# EAGLE library part POLOLU_3.3V (library powerboard)
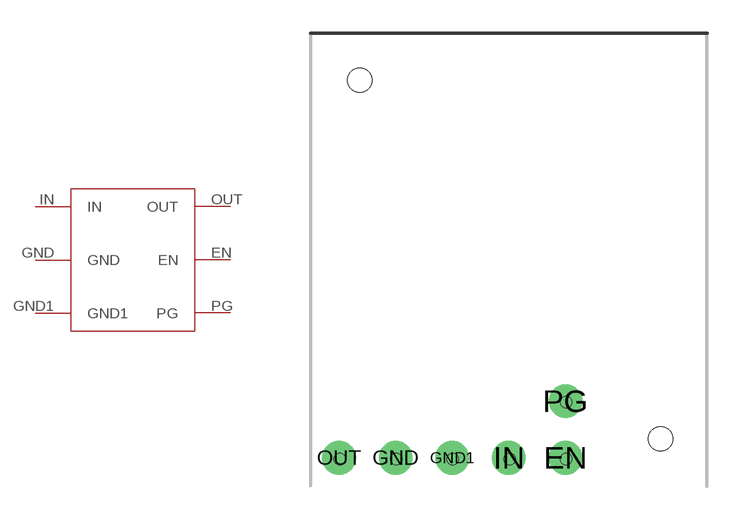
[diagram p0: symbol with the pads of POLOLU_3.3V; footprint POLOLU_3.3V]

Designator prefix -

## POLOLU_3.3V  [POLOLU_3.3V]
EN  EN
GND  GND
GND1  GND1
IN  IN
OUT  OUT
PG  PG

## Footprint POLOLU_3.3V (pad centres in mm)
drill 1: EN 11.43,-19.05; GND 3.81,-19.05; GND1 6.35,-19.05; IN 8.89,-19.05; OUT 1.27,-19.05; PG 11.43,-16.51
hole 0.51 at 1.3,-19.1
hole 0.51 at 3.84,-19.1
hole 0.51 at 6.38,-19.1
hole 0.51 at 8.92,-19.1
hole 0.51 at 11.46,-19.1
hole 0.51 at 11.46,-16.56
hole 1.09 at 15.693,-18.2
hole 1.09 at 2.193,-2.1